# Altium footprint library J 接插件.PcbLib: 458 footprints (part 16 of 29)
Each footprint in its own frame and in the unit in brackets; x right, y up, seen from the top. Pads: shape width x height; smd on the part's side, far side on the other; paste and mask are expansions set on the pad; w line width, h text height; cw(c..) or ccw(c..) is an arc to the next point about the centre after c.
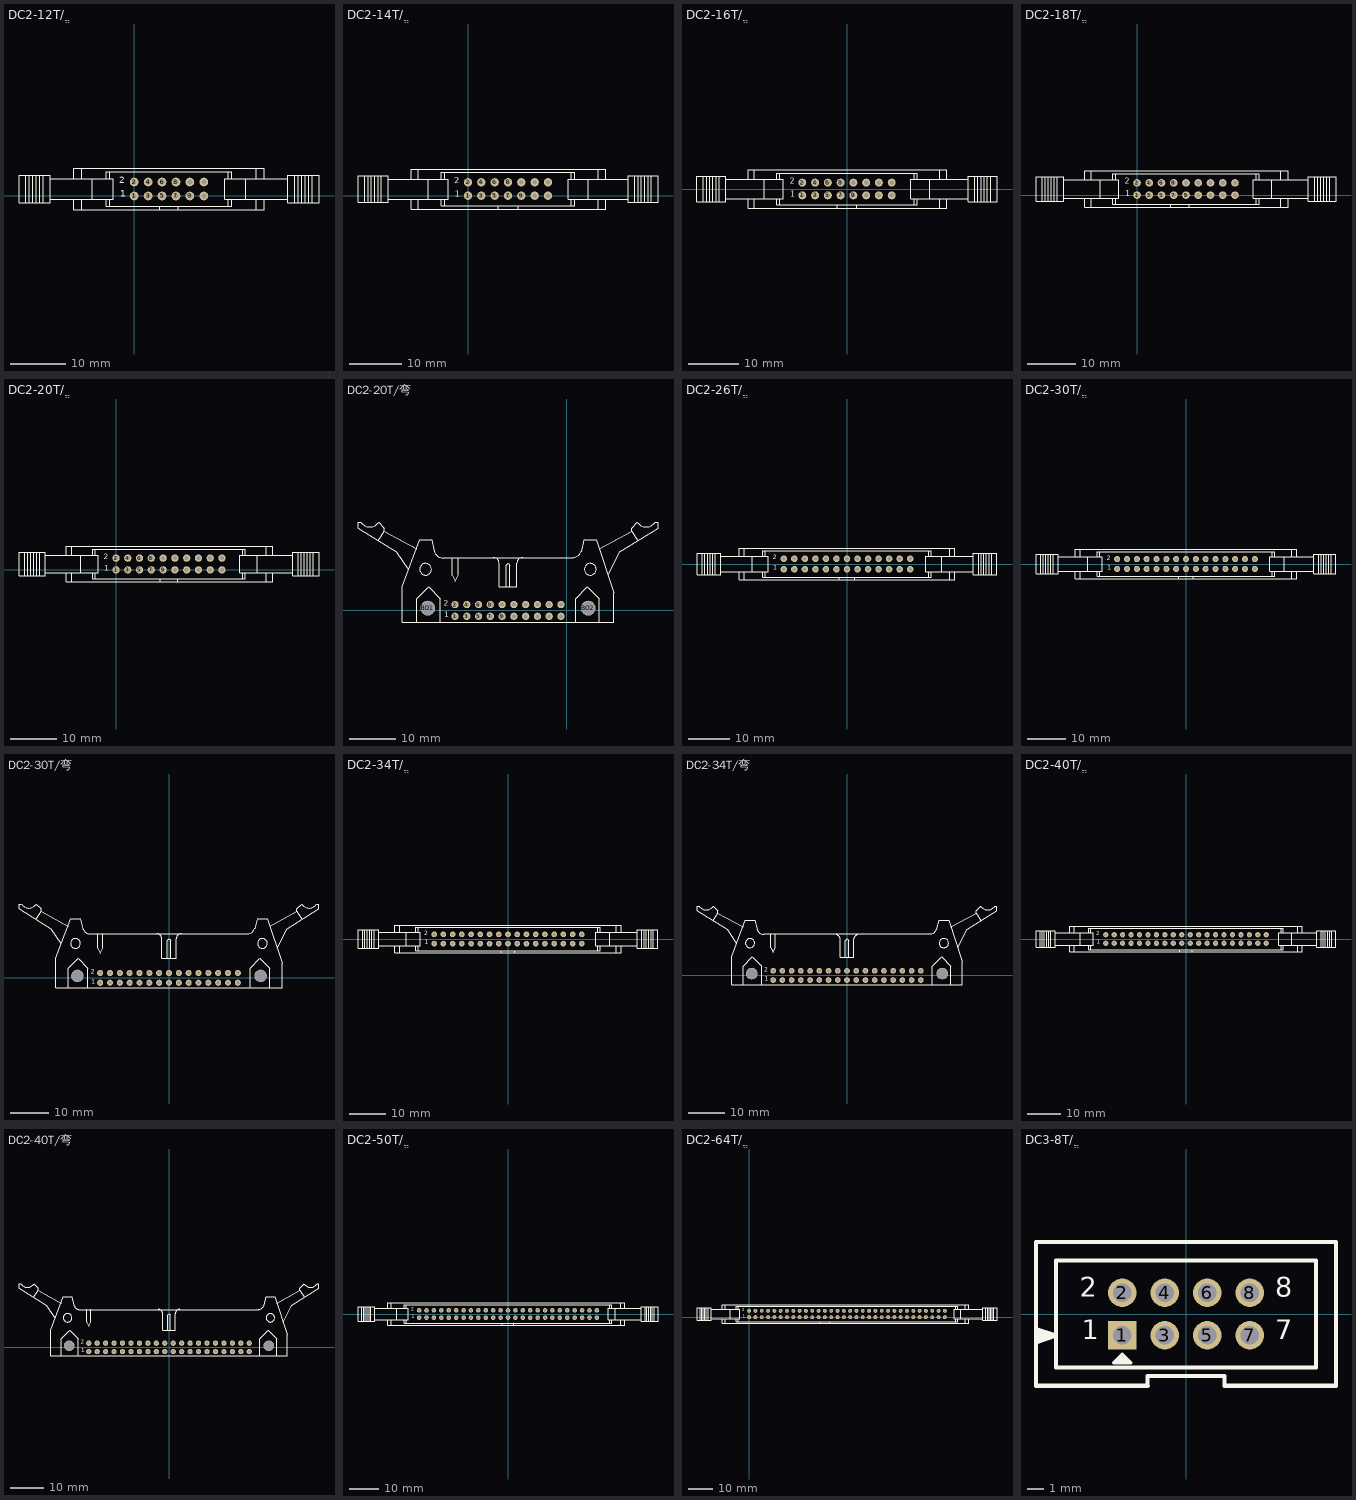
[diagram p15: the footprints below, top view; thin cyan lines are the x and y axes]

## DC2-12T/ֱ [mil] "双排排线带翅膀，12针"
height 590.55
pads (12):
  round 62 hole 35: 1(0,0) 2(0,100) 3(100,0) 4(100,100) 5(200,0) 6(200,100) 7(300,0) 8(300,100) 9(400,0) 10(400,100) 11(500,0) 12(500,100)
Top Overlay:
  lines w8: -775,-50 -775,150 ; -750,-50 -750,150 ; -725,-50 -725,150 ; -700,-50 -700,150 ; -675,-50 -675,150 ; -650,-50 -650,150 ; -600,-25 -433.33,-25 ; -600,125 -433.33,125 ; -375,-100 -375,-25 ; -375,125 -375,200 ; -300,-25 -300,125 ; -175,-75 -175,-25 ; -175,125 -175,175 ; 185,-100 185,-75 ; 315,-100 315,-75 ; 675,-75 675,-25 ; 675,125 675,175 ; 800,-25 800,125 ; 875,-100 875,-25 ; 875,125 875,200 ; 1100,-25 933.33,-25 ; 1100,125 933.33,125 ; 1150,-50 1150,150 ; 1175,-50 1175,150 ; 1200,-50 1200,150 ; 1225,-50 1225,150 ; 1250,-50 1250,150 ; 1275,-50 1275,150 ; -433.33,-25 -200,-25 ; -433.33,-25 -433.33,-100 933.33,-100 933.33,-25 ; -433.33,125 -200,125 ; -433.33,125 -433.33,200 933.33,200 933.33,125 ; -200,-25 -150,-25 -150,125 -200,125 ; -200,-25 -200,-75 125,-75 275,-75 700,-75 700,-25 ; -200,125 -200,175 700,175 700,125 ; 700,-25 650,-25 650,125 700,125 ; 700,-25 933.33,-25 ; 700,125 933.33,125 ; -825,-50 -825,150 -600,150 -600,-50 -825,-50 ; 1100,-50 1100,150 1325,150 1325,-50 1100,-50
  text "2" at -105,75 h80
  text "1" at -100,-25 h80

## DC2-14T/ֱ [mil] "双排排线带翅膀，14针"
height 590.55
pads (14):
  round 62 hole 35: 1(0,0) 2(0,100) 3(100,0) 4(100,100) 5(200,0) 6(200,100) 7(300,0) 8(300,100) 9(400,0) 10(400,100) 11(500,0) 12(500,100) 13(600,0) 14(600,100)
Top Overlay:
  lines w8: -775,-50 -775,150 ; -750,-50 -750,150 ; -725,-50 -725,150 ; -700,-50 -700,150 ; -675,-50 -675,150 ; -650,-50 -650,150 ; -600,-25 -333.33,-25 -200,-25 ; -600,125 -333.33,125 -200,125 ; -425,-25 -425,-100 1033.33,-100 1033.33,-25 ; -425,125 -425,200 1033.33,200 1033.33,125 800,125 ; -375,-100 -375,-25 ; -375,125 -375,200 ; -300,-25 -300,125 ; -175,-75 -175,-25 ; -175,125 -175,175 ; 225,-100 225,-75 ; 375,-100 375,-75 ; 775,-75 775,-25 ; 775,125 775,175 ; 900,-25 900,125 ; 933.33,125 1200,125 ; 975,-100 975,-25 ; 975,125 975,200 ; 1200,-25 933.33,-25 800,-25 ; 1250,-50 1250,150 ; 1275,-50 1275,150 ; 1300,-50 1300,150 ; 1325,-50 1325,150 ; 1350,-50 1350,150 ; 1375,-50 1375,150 ; -200,-25 -200,-75 225,-75 ; -200,-25 -150,-25 -150,125 -200,125 ; -200,125 -200,175 800,175 800,125 ; 225,-75 375,-75 ; 375,-75 800,-75 800,-25 ; 800,-25 750,-25 750,125 800,125 ; -825,-50 -600,-50 -600,150 -825,150 -825,-50 ; 1200,-50 1425,-50 1425,150 1200,150 1200,-50
  text "1" at -100,-25 h80
  text "2" at -105,75 h80

## DC2-16T/ֱ [mil] "双排排线带翅膀，16针"
height 590.55
pads (16):
  round 62 hole 35: 1(-350,-50) 2(-350,50) 3(-250,-50) 4(-250,50) 5(-150,-50) 6(-150,50) 7(-50,-50) 8(-50,50) 9(50,-50) 10(50,50) 11(150,-50) 12(150,50) 13(250,-50) 14(250,50) 15(350,-50) 16(350,50)
Top Overlay:
  lines w8: -1125,-100 -1125,100 ; -1100,-100 -1100,100 ; -1075,-100 -1075,100 ; -1050,-100 -1050,100 ; -1025,-100 -1025,100 ; -1000,-100 -1000,100 ; -950,-75 -633.33,-75 -550,-75 ; -950,75 -633.33,75 -550,75 ; -775,-75 -775,-150 783.33,-150 783.33,-75 ; -775,75 -775,150 783.33,150 783.33,75 ; -725,-150 -725,-75 ; -725,75 -725,150 ; -650,-75 -650,75 ; -525,-125 -525,-75 ; -525,75 -525,125 ; -75,-150 -75,-125 ; 75,-150 75,-125 ; 525,-125 525,-75 ; 525,75 525,125 ; 650,-75 650,75 ; 725,-150 725,-75 ; 725,75 725,150 ; 950,-75 633.33,-75 550,-75 ; 950,75 733.33,75 550,75 ; 1000,-100 1000,100 ; 1025,-100 1025,100 ; 1050,-100 1050,100 ; 1075,-100 1075,100 ; 1100,-100 1100,100 ; 1125,-100 1125,100 ; -550,-75 -500,-75 -500,75 -550,75 ; -550,-75 -550,-125 -75,-125 ; -550,75 -550,125 550,125 550,75 ; -75,-125 75,-125 ; 75,-125 550,-125 550,-75 ; 550,-75 500,-75 500,75 550,75 ; -1175,-100 -1175,100 -950,100 -950,-100 -1175,-100 ; 950,-100 950,100 1175,100 1175,-100 950,-100
  text "2" at -450,25 h80
  text "1" at -445,-75 h80

## DC2-18T/ֱ [mil] "双排排线带翅膀，18针"
height 590.55
pads (18):
  round 62 hole 35: 1(0,0) 2(0,100) 3(100,0) 4(100,100) 5(200,0) 6(200,100) 7(300,0) 8(300,100) 9(400,0) 10(400,100) 11(500,0) 12(500,100) 13(600,0) 14(600,100) 15(700,0) 16(700,100) 17(800,0) 18(800,100)
Top Overlay:
  lines w8: -775,-50 -775,150 ; -750,-50 -750,150 ; -725,-50 -725,150 ; -700,-50 -700,150 ; -675,-50 -675,150 ; -650,-50 -650,150 ; -600,-25 -283.33,-25 -200,-25 ; -600,125 -283.33,125 -200,125 ; -425,-25 -425,-100 1233.33,-100 1233.33,-25 ; -425,125 -425,200 1233.33,200 1233.33,125 ; -375,-100 -375,-25 ; -375,125 -375,200 ; -300,-25 -300,125 ; -175,-75 -175,-25 ; -175,125 -175,175 ; 275,-100 275,-75 ; 425,-100 425,-75 ; 975,-75 975,-25 ; 975,125 975,175 ; 1100,-25 1100,125 ; 1175,-100 1175,-25 ; 1175,125 1175,200 ; 1400,-25 1083.33,-25 1000,-25 ; 1400,125 1183.33,125 1000,125 ; 1450,-50 1450,150 ; 1475,-50 1475,150 ; 1500,-50 1500,150 ; 1525,-50 1525,150 ; 1550,-50 1550,150 ; 1575,-50 1575,150 ; -200,-25 -150,-25 -150,125 -200,125 ; -200,-25 -200,-75 275,-75 ; -200,125 -200,175 1000,175 1000,125 ; 275,-75 425,-75 ; 425,-75 1000,-75 1000,-25 ; 1000,-25 950,-25 950,125 1000,125 ; -825,-50 -825,150 -600,150 -600,-50 -825,-50 ; 1400,-50 1400,150 1625,150 1625,-50 1400,-50
  text "2" at -100,75 h80
  text "1" at -95,-25 h80

## DC2-20T/ֱ [mil] "双排排线带翅膀，20针"
height 590.55
pads (20):
  round 62 hole 35: 1(0,0) 2(0,100) 3(100,0) 4(100,100) 5(200,0) 6(200,100) 7(300,0) 8(300,100) 9(400,0) 10(400,100) 11(500,0) 12(500,100) 13(600,0) 14(600,100) 15(700,0) 16(700,100) 17(800,0) 18(800,100) 19(900,0) 20(900,100)
Top Overlay:
  lines w8: -775,-50 -775,150 ; -750,-50 -750,150 ; -725,-50 -725,150 ; -700,-50 -700,150 ; -675,-50 -675,150 ; -650,-50 -650,150 ; -600,-25 -200,-25 ; -600,125 -200,125 ; -425,-25 -425,-100 1333.33,-100 1333.33,-25 ; -425,125 -425,200 1333.33,200 1333.33,125 ; -375,-100 -375,-25 ; -375,125 -375,200 ; -300,-25 -300,125 ; -175,-75 -175,-25 ; -175,125 -175,175 ; 375,-100 375,-75 ; 525,-100 525,-75 ; 1075,-75 1075,-25 ; 1075,125 1075,175 ; 1200,-25 1200,125 ; 1275,-100 1275,-25 ; 1275,125 1275,200 ; 1500,-25 1100,-25 ; 1500,125 1100,125 ; 1550,-50 1550,150 ; 1575,-50 1575,150 ; 1600,-50 1600,150 ; 1625,-50 1625,150 ; 1650,-50 1650,150 ; 1675,-50 1675,150 ; -200,-25 -200,-75 375,-75 ; -200,-25 -150,-25 -150,125 -200,125 ; -200,125 -200,175 1100,175 1100,125 ; 375,-75 525,-75 ; 525,-75 1100,-75 1100,-25 ; 1100,-25 1050,-25 1050,125 1100,125 ; -825,-50 -600,-50 -600,150 -825,150 -825,-50 ; 1500,-50 1725,-50 1725,150 1500,150 1500,-50
  text "2" at -105,75 h80
  text "1" at -100,-25 h80

## DC2-20T/弯 [mil] "双排排线带翅膀，20针  弯角"
pads (22):
  round 62 hole 35: 1(-950,-50) 2(-950,50) 3(-850,-50) 4(-850,50) 5(-750,-50) 6(-750,50) 7(-650,-50) 8(-650,50) 9(-550,-50) 10(-550,50) 11(-450,-50) 12(-450,50) 13(-350,-50) 14(-350,50) 15(-250,-50) 16(-250,50) 17(-150,-50) 18(-150,50) 19(-50,-50) 20(-50,50)
  round 126 hole 116: BO1(-1181.67,20) BO2(181.67,20)
Top Overlay:
  circle w8: c-1200,350 r50
  circle w8: c200,350 r50
  lines w8: -1750,750 -1775,750 -1775,700 -1450,500 -1350,350 ; -1749.61,749.67 ccw(c-1675,800) -1600.39,749.67 ; -1600,600 -1550,675 ; -1600,750 -1550,700 -1550,675 ; -1275,-100 -1275,100 -1175,200 -1075,100 -1075,-100 ; -1275,525 -1550,675 ; -1125.29,500.54 ccw(c-1050,525) -1050,445.83 ; -1125,500 -1150,600 -1250,600 -1400,200 -1400,-100 400,-100 400,150 250,600 150,600 125,500 ; -1050,450 55,450 ; -975,450 -975,300 -950,250 -925,300 -925,450 ; -625,450 cw(c-625,400) -575,400 -575,200 -425,200 -425,400 cw(c-375,400) -375,450 ; -516.67,200 -516.67,383.33 -500,400 -483.33,383.33 -483.33,200 ; 50,450 ccw(c50,525) 121.33,501.82 ; 75,-100 75,100 175,200 275,100 275,-100 ; 275,525 550,675 ; 350,300 450,500 775,700 775,750 750,750 ; 600,600 550,675 ; 600,750 550,700 550,675 ; 600.39,749.67 ccw(c675,800) 749.61,749.67
  text "1" at -1040,-75 h80
  text "2" at -1045,25 h80

## DC2-26T/ֱ [mil] "双排排线带翅膀，26针"
height 590.55
pads (26):
  round 62 hole 35: 1(-600,-50) 2(-600,50) 3(-500,-50) 4(-500,50) 5(-400,-50) 6(-400,50) 7(-300,-50) 8(-300,50) 9(-200,-50) 10(-200,50) 11(-100,-50) 12(-100,50) 13(0,-50) 14(0,50) 15(100,-50) 16(100,50) 17(200,-50) 18(200,50) 19(300,-50) 20(300,50) 21(400,-50) 22(400,50) 23(500,-50) 24(500,50) 25(600,-50) 26(600,50)
Top Overlay:
  lines w8: -1375,-100 -1375,100 ; -1350,-100 -1350,100 ; -1325,-100 -1325,100 ; -1300,-100 -1300,100 ; -1275,-100 -1275,100 ; -1250,-100 -1250,100 ; -1200,-75 -800,-75 ; -1200,75 -800,75 ; -1025,-75 -1025,-150 1025,-150 1025,-75 ; -1025,75 -1025,150 1025,150 1025,75 ; -975,-150 -975,-75 ; -975,75 -975,150 ; -900,-75 -900,75 ; -775,-125 -775,-75 ; -775,75 -775,125 ; -75,-150 -75,-125 ; 75,-150 75,-125 ; 775,-125 775,-75 ; 775,75 775,125 ; 900,-75 900,75 ; 975,-150 975,-75 ; 975,75 975,150 ; 1200,-75 800,-75 ; 1200,75 800,75 ; 1250,-100 1250,100 ; 1275,-100 1275,100 ; 1300,-100 1300,100 ; 1325,-100 1325,100 ; 1350,-100 1350,100 ; 1375,-100 1375,100 ; -800,-75 -750,-75 -750,75 -800,75 ; -800,-75 -800,-125 -75,-125 ; -800,75 -800,125 800,125 800,75 ; -75,-125 75,-125 ; 75,-125 800,-125 800,-75 ; 800,-75 750,-75 750,75 800,75 ; -1425,-100 -1425,100 -1200,100 -1200,-100 -1425,-100 ; 1200,-100 1200,100 1425,100 1425,-100 1200,-100
  text "2" at -705,25 h80
  text "1" at -700,-75 h80

## DC2-30T/ֱ [mil] "双排排线带翅膀，30针"
height 590.55
pads (30):
  round 62 hole 35: 1(-700,-50) 2(-700,50) 3(-600,-50) 4(-600,50) 5(-500,-50) 6(-500,50) 7(-400,-50) 8(-400,50) 9(-300,-50) 10(-300,50) 11(-200,-50) 12(-200,50) 13(-100,-50) 14(-100,50) 15(0,-50) 16(0,50) 17(100,-50) 18(100,50) 19(200,-50) 20(200,50) 21(300,-50) 22(300,50) 23(400,-50) 24(400,50) 25(500,-50) 26(500,50) 27(600,-50) 28(600,50) 29(700,-50) 30(700,50)
Top Overlay:
  lines w8: -1475,-100 -1475,100 ; -1450,-100 -1450,100 ; -1425,-100 -1425,100 ; -1400,-100 -1400,100 ; -1375,-100 -1375,100 ; -1350,-100 -1350,100 ; -1300,-75 -900,-75 ; -1300,75 -900,75 ; -1125,-75 -1125,-150 1125,-150 1125,-75 ; -1125,75 -1125,150 1125,150 1125,75 ; -1075,-150 -1075,-75 ; -1075,75 -1075,150 ; -1000,-75 -1000,75 ; -875,-125 -875,-75 ; -875,75 -875,125 ; -75,-150 -75,-125 ; 75,-150 75,-125 ; 875,-125 875,-75 ; 875,75 875,125 ; 1000,-75 1000,75 ; 1075,-150 1075,-75 ; 1075,75 1075,150 ; 1300,-75 900,-75 ; 1300,75 900,75 ; 1350,-100 1350,100 ; 1375,-100 1375,100 ; 1400,-100 1400,100 ; 1425,-100 1425,100 ; 1450,-100 1450,100 ; 1475,-100 1475,100 ; -900,-75 -850,-75 -850,75 -900,75 ; -900,-75 -900,-125 -75,-125 ; -900,75 -900,125 900,125 900,75 ; -75,-125 75,-125 ; 75,-125 900,-125 900,-75 ; 900,-75 850,-75 850,75 900,75 ; -1525,-100 -1525,100 -1300,100 -1300,-100 -1525,-100 ; 1300,-100 1300,100 1525,100 1525,-100 1300,-100
  text "1" at -800,-75 h80
  text "2" at -805,25 h80

## DC2-30T/弯 [mil] "双排排线带翅膀，30针  弯角"
pads (32):
  round 62 hole 35: 1(-700,-50) 2(-700,50) 3(-600,-50) 4(-600,50) 5(-500,-50) 6(-500,50) 7(-400,-50) 8(-400,50) 9(-300,-50) 10(-300,50) 11(-200,-50) 12(-200,50) 13(-100,-50) 14(-100,50) 15(0,-50) 16(0,50) 17(100,-50) 18(100,50) 19(200,-50) 20(200,50) 21(300,-50) 22(300,50) 23(400,-50) 24(400,50) 25(500,-50) 26(500,50) 27(600,-50) 28(600,50) 29(700,-50) 30(700,50)
  round 126 hole 116: BO1(-931.67,20) BO2(931.67,20)
Top Overlay:
  circle w8: c950,350 r50
  circle w8: c-950,350 r50
  lines w8: -1500,750 -1525,750 -1525,700 -1200,500 -1100,350 ; -1499.61,749.67 ccw(c-1425,800) -1350.39,749.67 ; -1350,600 -1300,675 ; -1350,750 -1300,700 -1300,675 ; -1025,-100 -1025,100 -925,200 -825,100 -825,-100 ; -1025,525 -1300,675 ; -875.29,500.54 ccw(c-800,525) -800,445.83 ; -875,500 -900,600 -1000,600 -1150,200 -1150,-100 1150,-100 1150,150 1000,600 900,600 875,500 ; -800,450 800,450 ccw(c800,525) 871.33,501.82 ; -725,450 -725,300 -700,250 -675,300 -675,450 ; -125,450 cw(c-125,400) -75,400 -75,200 75,200 75,400 cw(c125,400) 125,450 ; -16.67,200 -16.67,383.33 0,400 16.67,383.33 16.67,200 ; 825,-100 825,100 925,200 1025,100 1025,-100 ; 1025,525 1300,675 ; 1100,300 1200,500 1525,700 1525,750 1500,750 ; 1350,600 1300,675 ; 1350,750 1300,700 1300,675 ; 1350.39,749.67 ccw(c1425,800) 1499.61,749.67
  text "2" at -795,25 h80
  text "1" at -790,-75 h80

## DC2-34T/ֱ [mil] "双排排线带翅膀，34针"
height 590.55
pads (34):
  round 62 hole 35: 1(-800,-50) 2(-800,50) 3(-700,-50) 4(-700,50) 5(-600,-50) 6(-600,50) 7(-500,-50) 8(-500,50) 9(-400,-50) 10(-400,50) 11(-300,-50) 12(-300,50) 13(-200,-50) 14(-200,50) 15(-100,-50) 16(-100,50) 17(0,-50) 18(0,50) 19(100,-50) 20(100,50) 21(200,-50) 22(200,50) 23(300,-50) 24(300,50) 25(400,-50) 26(400,50) 27(500,-50) 28(500,50) 29(600,-50) 30(600,50) 31(700,-50) 32(700,50) 33(800,-50) 34(800,50)
Top Overlay:
  lines w8: -1575,-100 -1575,100 ; -1550,-100 -1550,100 ; -1525,-100 -1525,100 ; -1500,-100 -1500,100 ; -1475,-100 -1475,100 ; -1450,-100 -1450,100 ; -1400,-75 -1000,-75 ; -1400,75 -1000,75 ; -1225,-75 -1225,-150 1225,-150 1225,-75 ; -1225,75 -1225,150 1225,150 1225,75 ; -1175,-150 -1175,-75 ; -1175,75 -1175,150 ; -1100,-75 -1100,75 ; -975,-125 -975,-75 ; -975,75 -975,125 ; -75,-150 -75,-125 ; 75,-150 75,-125 ; 975,-125 975,-75 ; 975,75 975,125 ; 1100,-75 1100,75 ; 1175,-150 1175,-75 ; 1175,75 1175,150 ; 1400,-75 1000,-75 ; 1400,75 1000,75 ; 1450,-100 1450,100 ; 1475,-100 1475,100 ; 1500,-100 1500,100 ; 1525,-100 1525,100 ; 1550,-100 1550,100 ; 1575,-100 1575,100 ; -1000,-75 -1000,-125 -75,-125 ; -1000,-75 -950,-75 -950,75 -1000,75 ; -1000,75 -1000,125 1000,125 1000,75 ; -75,-125 75,-125 ; 75,-125 1000,-125 1000,-75 ; 1000,-75 950,-75 950,75 1000,75 ; -1625,-100 -1400,-100 -1400,100 -1625,100 -1625,-100 ; 1400,-100 1625,-100 1625,100 1400,100 1400,-100
  text "2" at -905,25 h80
  text "1" at -900,-75 h80

## DC2-34T/弯 [mil] "双排排线带翅膀，34针  弯角"
pads (36):
  round 62 hole 35: 1(-800,-50) 2(-800,50) 3(-700,-50) 4(-700,50) 5(-600,-50) 6(-600,50) 7(-500,-50) 8(-500,50) 9(-400,-50) 10(-400,50) 11(-300,-50) 12(-300,50) 13(-200,-50) 14(-200,50) 15(-100,-50) 16(-100,50) 17(0,-50) 18(0,50) 19(100,-50) 20(100,50) 21(200,-50) 22(200,50) 23(300,-50) 24(300,50) 25(400,-50) 26(400,50) 27(500,-50) 28(500,50) 29(600,-50) 30(600,50) 31(700,-50) 32(700,50) 33(800,-50) 34(800,50)
  round 126 hole 116: BO1(-1031.67,20) BO2(1031.67,20)
Top Overlay:
  circle w8: c1050,350 r50
  circle w8: c-1050,350 r50
  lines w8: -1600,750 -1625,750 -1625,700 -1300,500 -1200,350 ; -1599.61,749.67 ccw(c-1525,800) -1450.39,749.67 ; -1450,600 -1400,675 ; -1450,750 -1400,700 -1400,675 ; -1125,-100 -1125,100 -1025,200 -925,100 -925,-100 ; -1125,525 -1400,675 ; -975.29,500.54 ccw(c-900,525) -900,445.83 ; -975,500 -1000,600 -1100,600 -1250,200 -1250,-100 1250,-100 1250,150 1100,600 1000,600 975,500 ; -900,450 900,450 ccw(c900,525) 971.33,501.82 ; -825,450 -825,300 -800,250 -775,300 -775,450 ; -125,445 cw(c-125,395) -75,395 -75,195 75,195 75,395 cw(c125,395) 125,445 ; -16.67,195 -16.67,378.33 0,395 16.67,378.33 16.67,195 ; 925,-100 925,100 1025,200 1125,100 1125,-100 ; 1125,525 1400,675 ; 1200,300 1300,500 1625,700 1625,750 1600,750 ; 1450,600 1400,675 ; 1450,750 1400,700 1400,675 ; 1450.39,749.67 ccw(c1525,800) 1599.61,749.67
  text "2" at -895,25 h80
  text "1" at -890,-75 h80

## DC2-40T/ֱ [mil] "双排排线带翅膀，40针"
height 590.55
pads (40):
  round 62 hole 35: 1(-950,-50) 2(-950,50) 3(-850,-50) 4(-850,50) 5(-750,-50) 6(-750,50) 7(-650,-50) 8(-650,50) 9(-550,-50) 10(-550,50) 11(-450,-50) 12(-450,50) 13(-350,-50) 14(-350,50) 15(-250,-50) 16(-250,50) 17(-150,-50) 18(-150,50) 19(-50,-50) 20(-50,50) 21(50,-50) 22(50,50) 23(150,-50) 24(150,50) 25(250,-50) 26(250,50) 27(350,-50) 28(350,50) 29(450,-50) 30(450,50) 31(550,-50) 32(550,50) 33(650,-50) 34(650,50) 35(750,-50) 36(750,50) 37(850,-50) 38(850,50) 39(950,-50) 40(950,50)
Top Overlay:
  lines w8: -1725,-100 -1725,100 ; -1700,-100 -1700,100 ; -1675,-100 -1675,100 ; -1650,-100 -1650,100 ; -1625,-100 -1625,100 ; -1600,-100 -1600,100 ; -1550,-75 -1150,-75 ; -1550,75 -1150,75 ; -1375,-75 -1375,-150 1375,-150 1375,-75 ; -1375,75 -1375,150 1375,150 1375,75 ; -1325,-150 -1325,-75 ; -1325,75 -1325,150 ; -1250,-75 -1250,75 ; -1125,-125 -1125,-75 ; -1125,75 -1125,125 ; -75,-150 -75,-125 ; 75,-150 75,-125 ; 1125,-125 1125,-75 ; 1125,75 1125,125 ; 1250,-75 1250,75 ; 1325,-150 1325,-75 ; 1325,75 1325,150 ; 1550,-75 1150,-75 ; 1550,75 1150,75 ; 1600,-100 1600,100 ; 1625,-100 1625,100 ; 1650,-100 1650,100 ; 1675,-100 1675,100 ; 1700,-100 1700,100 ; 1725,-100 1725,100 ; -1150,-75 -1100,-75 -1100,75 -1150,75 ; -1150,-75 -1150,-125 -75,-125 ; -1150,75 -1150,125 1150,125 1150,75 ; -75,-125 75,-125 ; 75,-125 1150,-125 1150,-75 ; 1150,-75 1100,-75 1100,75 1150,75 ; 1775,-100 1775,100 ; 1775,-100 1775,100 ; 1775,-100 1775,100 ; 1775,-100 1550,-100 1550,100 1775,100 ; -1775,-100 -1775,100 -1550,100 -1550,-100 -1775,-100
  text "2" at -1060,25 h80
  text "1" at -1055,-75 h80

## DC2-40T/弯 [mil] "双排排线带翅膀，40针  弯角"
pads (42):
  round 62 hole 35: 1(-950,-50) 2(-950,50) 3(-850,-50) 4(-850,50) 5(-750,-50) 6(-750,50) 7(-650,-50) 8(-650,50) 9(-550,-50) 10(-550,50) 11(-450,-50) 12(-450,50) 13(-350,-50) 14(-350,50) 15(-250,-50) 16(-250,50) 17(-150,-50) 18(-150,50) 19(-50,-50) 20(-50,50) 21(50,-50) 22(50,50) 23(150,-50) 24(150,50) 25(250,-50) 26(250,50) 27(350,-50) 28(350,50) 29(450,-50) 30(450,50) 31(550,-50) 32(550,50) 33(650,-50) 34(650,50) 35(750,-50) 36(750,50) 37(850,-50) 38(850,50) 39(950,-50) 40(950,50)
  round 126 hole 116: BO1(-1181.67,20) BO2(1181.67,20)
Top Overlay:
  circle w8: c1200,350 r50
  circle w8: c-1200,350 r50
  lines w8: -1750,750 -1775,750 -1775,700 -1450,500 -1350,350 ; -1749.61,749.67 ccw(c-1675,800) -1600.39,749.67 ; -1600,600 -1550,675 ; -1600,750 -1550,700 -1550,675 ; -1275,-100 -1275,100 -1175,200 -1075,100 -1075,-100 ; -1275,525 -1550,675 ; -1125.29,500.54 ccw(c-1050,525) -1050,445.83 ; -1125,500 -1150,600 -1250,600 -1400,200 -1400,-100 1400,-100 1400,150 1250,600 1150,600 1125,500 cw(c1053.67,523.18) 1053.67,448.18 ; -1050,445 1060,445 ; -975,450 -975,300 -950,250 -925,300 -925,450 ; -125,450 cw(c-125,400) -75,400 -75,200 75,200 75,400 cw(c125,400) 125,450 ; -16.67,200 -16.67,383.33 0,400 16.67,383.33 16.67,200 ; 1075,-100 1075,100 1175,200 1275,100 1275,-100 ; 1275,525 1550,675 ; 1350,300 1450,500 1775,700 1775,750 1750,750 ; 1600,600 1550,675 ; 1600,750 1550,700 1550,675 ; 1600.39,749.67 ccw(c1675,800) 1749.61,749.67
  text "2" at -1045,25 h80
  text "1" at -1040,-75 h80

## DC2-50T/ֱ [mil] "双排排线带翅膀，50针"
height 43.31
pads (50):
  round 62 hole 35: 1(-1200,-50) 2(-1200,50) 3(-1100,-50) 4(-1100,50) 5(-1000,-50) 6(-1000,50) 7(-900,-50) 8(-900,50) 9(-800,-50) 10(-800,50) 11(-700,-50) 12(-700,50) 13(-600,-50) 14(-600,50) 15(-500,-50) 16(-500,50) 17(-400,-50) 18(-400,50) 19(-300,-50) 20(-300,50) 21(-200,-50) 22(-200,50) 23(-100,-50) 24(-100,50) 25(0,-50) 26(0,50) 27(100,-50) 28(100,50) 29(200,-50) 30(200,50) 31(300,-50) 32(300,50) 33(400,-50) 34(400,50) 35(500,-50) 36(500,50) 37(600,-50) 38(600,50) 39(700,-50) 40(700,50) 41(800,-50) 42(800,50) 43(900,-50) 44(900,50) 45(1000,-50) 46(1000,50) 47(1100,-50) 48(1100,50) 49(1200,-50) 50(1200,50)
Top Overlay:
  lines w8: -1975,-100 -1975,100 ; -1950,-100 -1950,100 ; -1925,-100 -1925,100 ; -1900,-100 -1900,100 ; -1875,-100 -1875,100 ; -1850,-100 -1850,100 ; -1800,-75 -1400,-75 ; -1800,75 -1400,75 ; -1625,-75 -1625,-150 1575,-150 1575,-75 ; -1625,75 -1625,150 1575,150 1575,75 ; -1575,-150 -1575,-75 ; -1575,75 -1575,150 ; -1500,-75 -1500,75 ; -1375,-125 -1375,-75 ; -1375,75 -1375,125 ; -75,-150 -75,-125 ; 75,-150 75,-125 ; 1375,-125 1375,-75 ; 1375,75 1375,125 ; 1450,-75 1450,75 ; 1525,-150 1525,-75 ; 1525,75 1525,150 ; 1800,-75 1400,-75 ; 1800,75 1400,75 ; 1850,-100 1850,100 ; 1875,-100 1875,100 ; 1900,-100 1900,100 ; 1925,-100 1925,100 ; 1950,-100 1950,100 ; 1975,-100 1975,100 ; -1400,-75 -1350,-75 -1350,75 -1400,75 ; -1400,-75 -1400,-125 -75,-125 ; -1400,75 -1400,125 1400,125 1400,75 ; -75,-125 75,-125 ; 75,-125 1400,-125 1400,-75 ; 1400,-75 1350,-75 1350,75 1400,75 ; -2025,-100 -2025,100 -1800,100 -1800,-100 -2025,-100 ; 1800,-100 1800,100 2025,100 2025,-100 1800,-100
  text "2" at -1305,25 h80
  text "1" at -1300,-75 h80

## DC2-64T/ֱ [mil] "双排排线带翅膀，64针"
height 43.31
pads (64):
  round 62 hole 35: 1(0,0) 2(0,100) 3(100,0) 4(100,100) 5(200,0) 6(200,100) 7(300,0) 8(300,100) 9(400,0) 10(400,100) 11(500,0) 12(500,100) 13(600,0) 14(600,100) 15(700,0) 16(700,100) 17(800,0) 18(800,100) 19(900,0) 20(900,100) 21(1000,0) 22(1000,100) 23(1100,0) 24(1100,100) 25(1200,0) 26(1200,100) 27(1300,0) 28(1300,100) 29(1400,0) 30(1400,100) 31(1500,0) 32(1500,100) 33(1600,0) 34(1600,100) 35(1700,0) 36(1700,100) 37(1800,0) 38(1800,100) 39(1900,0) 40(1900,100) 41(2000,0) 42(2000,100) 43(2100,0) 44(2100,100) 45(2200,0) 46(2200,100) 47(2300,0) 48(2300,100) 49(2400,0) 50(2400,100) 51(2500,0) 52(2500,100) 53(2600,0) 54(2600,100) 55(2700,0) 56(2700,100) 57(2800,0) 58(2800,100) 59(2900,0) 60(2900,100) 61(3000,0) 62(3000,100) 63(3100,0) 64(3100,100)
Top Overlay:
  lines w8: -775,-50 -775,150 ; -750,-50 -750,150 ; -725,-50 -725,150 ; -700,-50 -700,150 ; -675,-50 -675,150 ; -650,-50 -650,150 ; -600,-25 -200,-25 ; -600,125 -200,125 ; -425,-25 -425,-100 3475,-100 3475,-25 ; -425,125 -425,200 3475,200 3475,125 ; -375,-100 -375,-25 ; -375,125 -375,200 ; -300,-25 -300,125 ; -175,-75 -175,-25 ; -175,125 -175,175 ; 1125,-100 1125,-75 ; 1275,-100 1275,-75 ; 3275,-75 3275,-25 ; 3275,125 3275,175 ; 3350,-25 3350,125 ; 3425,-100 3425,-25 ; 3425,125 3425,200 ; 3700,-25 3300,-25 ; 3700,125 3300,125 ; 3750,-50 3750,150 ; 3775,-50 3775,150 ; 3800,-50 3800,150 ; 3825,-50 3825,150 ; 3850,-50 3850,150 ; 3875,-50 3875,150 ; -200,-25 -200,-75 1125,-75 ; -200,-25 -150,-25 -150,125 -200,125 ; -200,125 -200,175 3300,175 3300,125 ; 1125,-75 1275,-75 ; 1275,-75 3300,-75 3300,-25 ; 3300,-25 3250,-25 3250,125 3300,125 ; -825,-50 -600,-50 -600,150 -825,150 -825,-50 ; 3700,-50 3925,-50 3925,150 3700,150 3700,-50
  text "1" at -100,-25 h80
  text "2" at -105,75 h80

## DC3-8T/ֱ [mm] "双排排线无翼，8针"
height 10
pads (8):
  rect 1.7x1.7 hole 1.1: 1(-3.81,-1.27)
  round 1.7 hole 1.1: 2(-3.81,1.27) 3(-1.27,-1.27) 4(-1.27,1.27) 5(1.27,-1.27) 6(1.27,1.27) 7(3.81,-1.27) 8(3.81,1.27)
Top Overlay:
  lines w0.203: -4.191,-2.794 -3.429,-2.794 ; -4.064,-2.667 -3.556,-2.667 ; -4.318,-2.921 -3.302,-2.921 -3.81,-2.413 -4.318,-2.921
  lines w0.25: -8.97,-4.3 -8.97,4.3 ; -8.97,-1.5 -8.37,-1.3 ; -8.97,-1.3 -7.77,-1.3 ; -8.97,-1.1 -8.27,-1.3 ; -8.915,-4.293 -2.286,-4.293 ; -2.3,-4.3 -2.3,-3.7 2.3,-3.7 2.3,-4.3 ; 2.413,-4.293 8.89,-4.293 ; 7.747,-3.2 -7.77,-3.2 -7.77,3.2 7.747,3.2 ; 7.77,-3.2 7.77,3.2 ; 8.97,-4.3 8.97,4.3 ; -8.97,4.3 8.89,4.3 -8.97,4.3 ; -7.77,-1.3 -8.97,-0.9 -8.97,-1.7 -7.77,-1.3
  text "8" at 5.334,0.635 h2
  text "7" at 5.334,-1.905 h2
  text "2" at -6.35,0.635 h2.03
  text "1" at -6.223,-1.905 h2.03